# EAGLE library part ARDUINO_101 (library E14_Arduino_revC)
Schematic symbol for representing an Arduino/Genuino 101 board in an EAGLE schematic. Created by Dave Young for Element14. More 101 documentation at: https://www.element14.com/community/docs/DOC-80459/l/intel-genuino-101-development-board More EAGLE documentation at: http://www.element14.com/community/community/knode/cadsoft_eagle
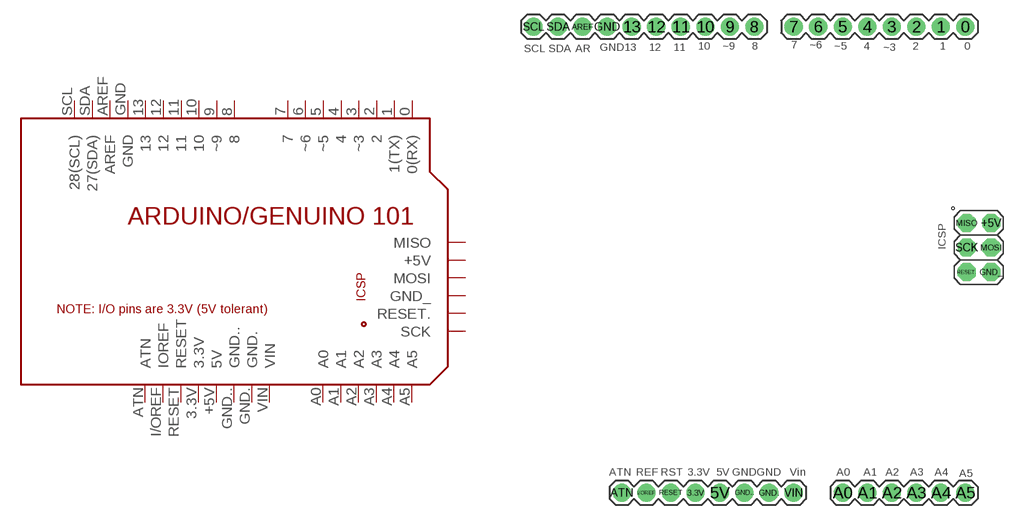
[diagram p9: symbol with the pads of ARDUINO_101_PINSONLY; footprint ARDUINO_101_PINSONLY]

Designator prefix PCB

## ARDUINO_101  [ARDUINO_101_PINSONLY]
0  0(RX)
1  1(TX)
2  2
3  ~3
3.3V  3.3V
4  4
5  ~5
5V  +5V
6  ~6
7  7
8  8
9  ~9
10  10
11  11
12  12
13  13
+5V  5V
A0  A0
A1  A1
A2  A2
A3  A3
A4  A4
A5  A5
AREF  AREF
ATN  ATN
GND  GND
GND.  GND.
GND..  GND..
GND_  GND_
I/OREF  IOREF
MISO  MISO
MOSI  MOSI
RESET  RESET
RESET.  RESET.
SCK  SCK
SCL  28(SCL)
SDA  27(SDA)
VIN  VIN

## Footprint ARDUINO_101_PINSONLY (pad centres in mm)
drill 1.016 pad 1.88: 0 21.59,24.13; 1 19.05,24.13; 2 16.51,24.13; 3 13.97,24.13; 3.3V -6.35,-24.13; 4 11.43,24.13; 5 8.89,24.13; 5V -3.81,-24.13; 6 6.35,24.13; 7 3.81,24.13; 8 -0.254,24.13; 9 -2.794,24.13; 10 -5.334,24.13; 11 -7.874,24.13; 12 -10.414,24.13; 13 -12.954,24.13; A0 8.89,-24.13; A1 11.43,-24.13; A2 13.97,-24.13; A3 16.51,-24.13; A4 19.05,-24.13; A5 21.59,-24.13; AREF -18.034,24.13; ATN -13.97,-24.13; GND -15.494,24.13; GND. 1.27,-24.13; GND.. -1.27,-24.13; I/OREF -11.43,-24.13; RESET -8.89,-24.13; SCL -23.114,24.13; SDA -20.574,24.13; VIN 3.81,-24.13
drill 1.016 pad 1.88 octagon: +5V 24.257,3.81; GND_ 24.257,-1.27; MISO 21.717,3.81; MOSI 24.257,1.27; RESET. 21.717,-1.27; SCK 21.717,1.27